# Altium schematic symbol library Schlib1.SchLib: 2 symbols
Pins are listed as number, name and electrical type; pins without a type are passive.

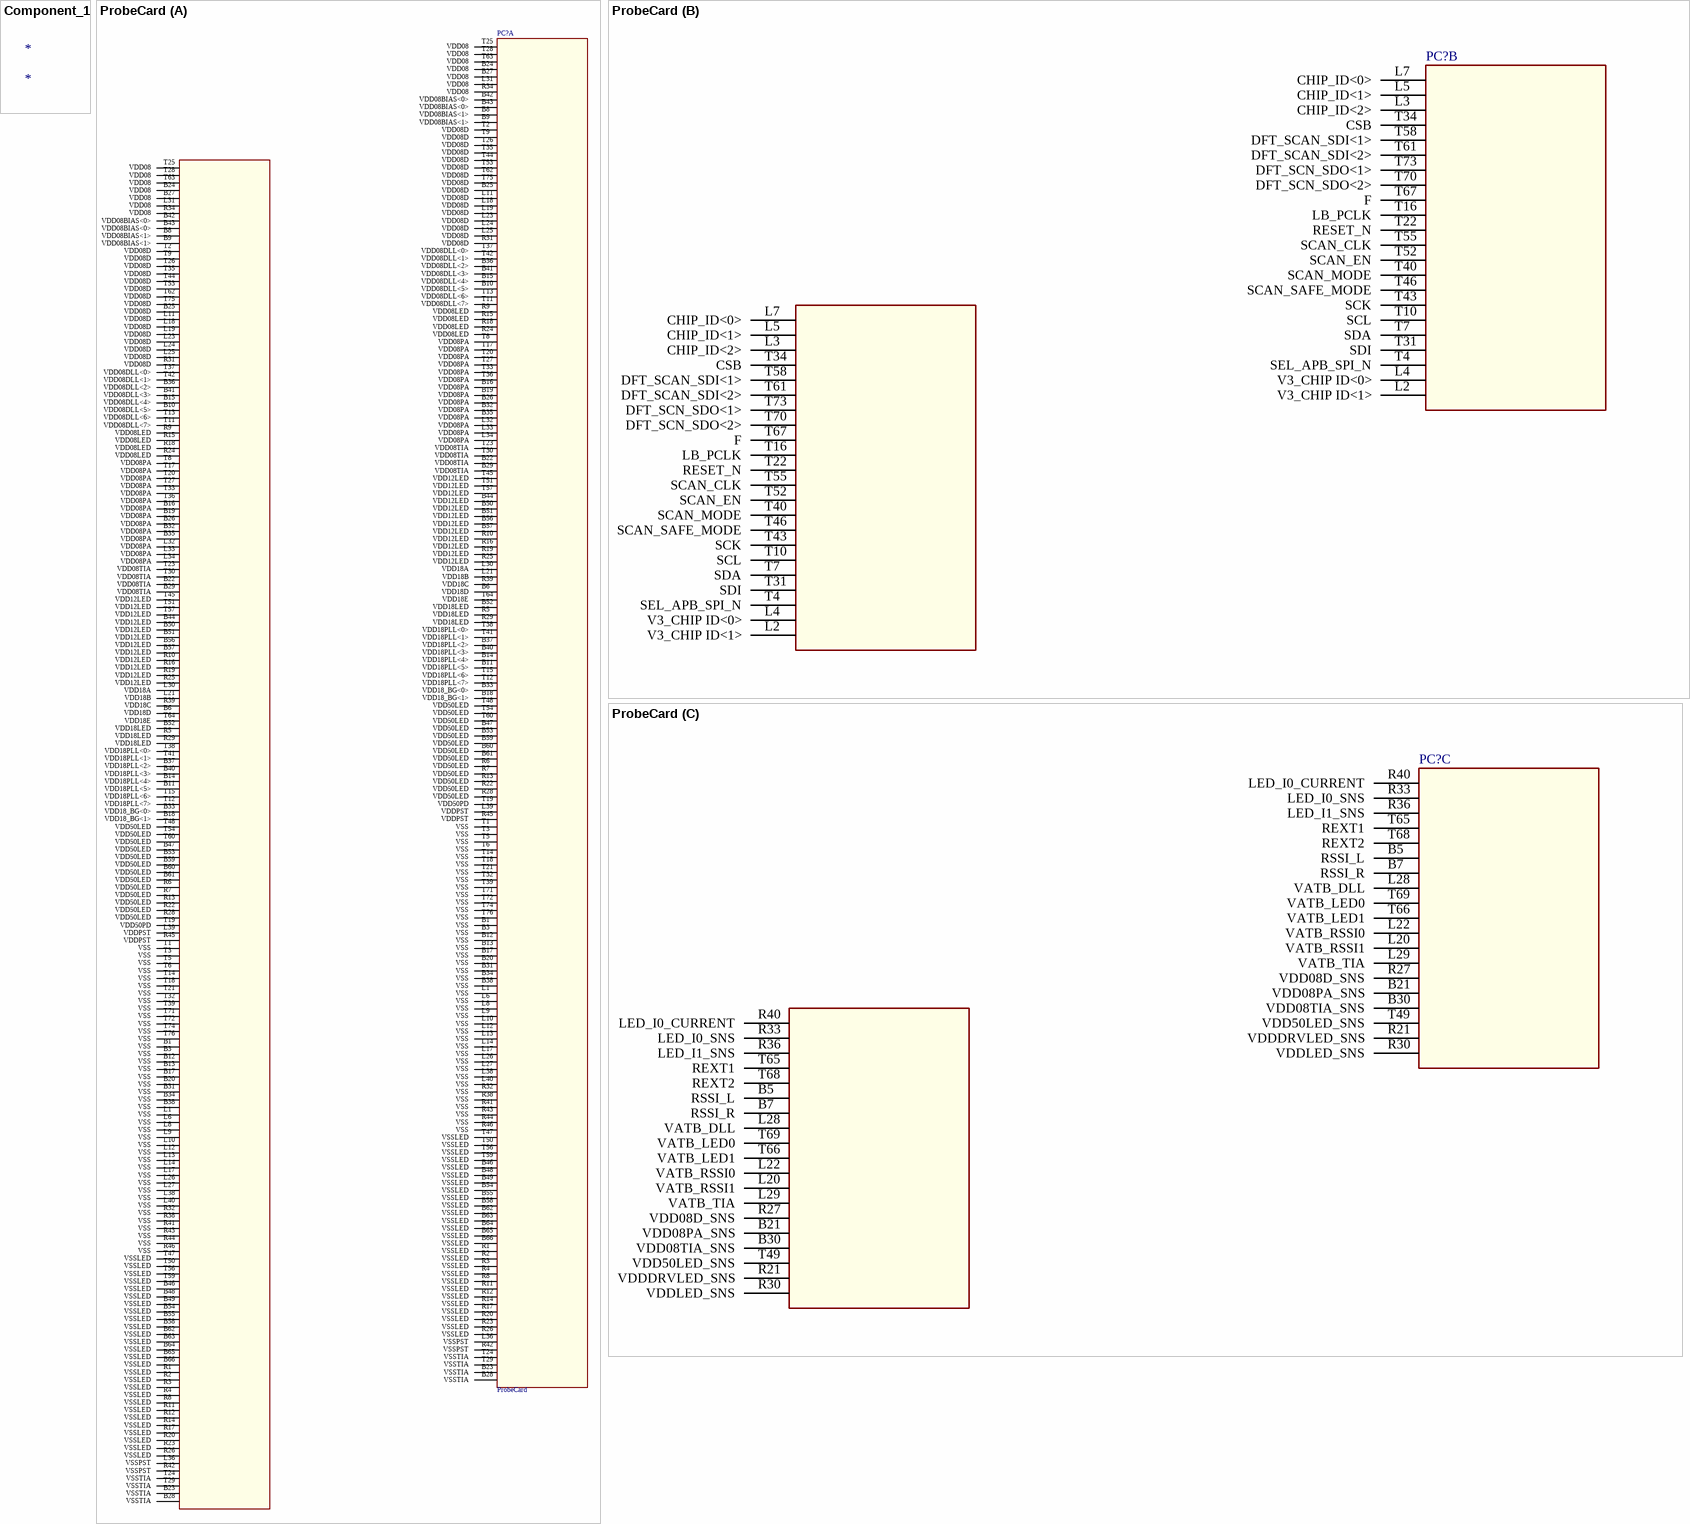
[diagram p0: symbols Component_1 to ProbeCard]

## Component_1
designator *

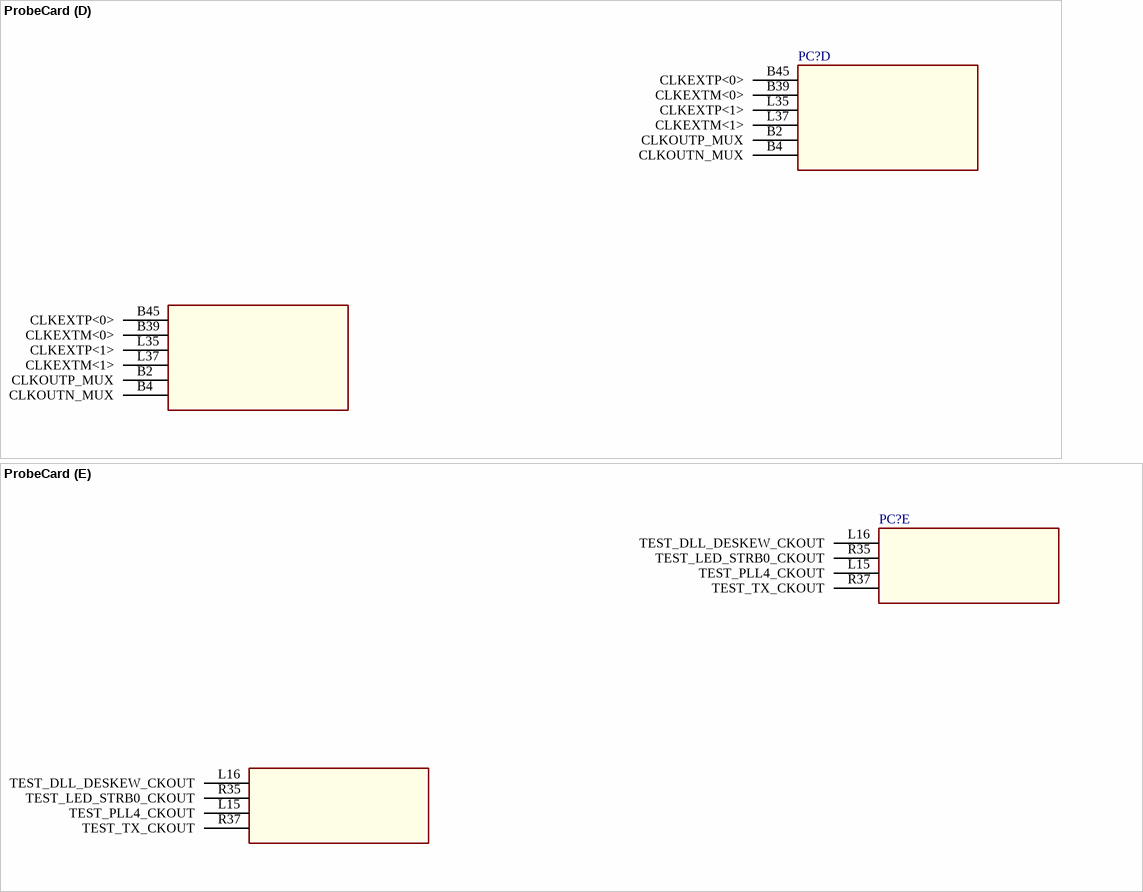
[diagram p1: symbol ProbeCard]

## ProbeCard
designator PC?
Probe card -- one part per net class
footprint ProbeCard
footprint ProbeCard
part A pins: B1 VSS, B1 VSS, B3 VSS, B3 VSS, B6 VDD18D, B6 VDD18D, B8 VDD08BIAS<1>, B8 VDD08BIAS<1>, B9 VDD08BIAS<1>, B9 VDD08BIAS<1>, B10 VDD08DLL<5>, B10 VDD08DLL<5>, B11 VDD18PLL<5>, B11 VDD18PLL<5>, B12 VSS, B12 VSS, B13 VSS, B13 VSS, B14 VDD18PLL<4>, B14 VDD18PLL<4>, B15 VDD08DLL<4>, B15 VDD08DLL<4>, B16 VDD08PA, B16 VDD08PA, B17 VSS, B17 VSS, B18 VDD18_BG<1>, B18 VDD18_BG<1>, B19 VDD08PA, B19 VDD08PA, B20 VSS, B20 VSS, B22 VDD08TIA, B22 VDD08TIA, B23 VSSTIA, B23 VSSTIA, B24 VDD08, B24 VDD08, B25 VDD08D, B25 VDD08D, B26 VDD08PA, B26 VDD08PA, B27 VDD08, B27 VDD08, B28 VSSTIA, B28 VSSTIA, B29 VDD08TIA, B29 VDD08TIA, B31 VSS, B31 VSS, B32 VDD08PA, B32 VDD08PA, B33 VDD18_BG<0>, B33 VDD18_BG<0>, B34 VSS, B34 VSS, B35 VDD08PA, B35 VDD08PA, B36 VDD08DLL<2>, B36 VDD08DLL<2>, B37 VDD18PLL<2>, B37 VDD18PLL<2>, B38 VSS, B38 VSS, B40 VDD18PLL<3>, B40 VDD18PLL<3>, B41 VDD08DLL<3>, B41 VDD08DLL<3>, B42 VDD08BIAS<0>, B42 VDD08BIAS<0>, B43 VDD08BIAS<0>, B43 VDD08BIAS<0>, B44 VDD12LED, B44 VDD12LED, B46 VSSLED, B46 VSSLED, B47 VDD50LED, B47 VDD50LED, B48 VSSLED, B48 VSSLED, B49 VSSLED, B49 VSSLED, B50 VDD12LED, B50 VDD12LED, B51 VDD12LED, B51 VDD12LED, B52 VDD18LED, B52 VDD18LED, B53 VDD50LED, B53 VDD50LED, B54 VSSLED, B54 VSSLED, B55 VSSLED, B55 VSSLED, B56 VDD12LED, B56 VDD12LED, B57 VDD12LED, B57 VDD12LED, B58 VSSLED, B58 VSSLED, B59 VDD50LED, B59 VDD50LED, B60 VDD50LED, B60 VDD50LED, B61 VDD50LED, B61 VDD50LED, B62 VSSLED, B62 VSSLED, B63 VSSLED, B63 VSSLED, B64 VSSLED, B64 VSSLED, B65 VSSLED, B65 VSSLED, B66 VSSLED, B66 VSSLED, L1 VSS, L1 VSS, L6 VSS, L6 VSS, L8 VSS, L8 VSS, L9 VSS, L9 VSS, L10 VSS, L10 VSS, L11 VDD08D, L11 VDD08D, L12 VSS, L12 VSS, L13 VSS, L13 VSS, L14 VSS, L14 VSS, L17 VSS, L17 VSS, L18 VDD08D, L18 VDD08D, L19 VDD08D, L19 VDD08D, L21 VDD18B, L21 VDD18B, L23 VDD08D, L23 VDD08D, L24 VDD08D, L24 VDD08D, L25 VDD08D, L25 VDD08D, L26 VSS, L26 VSS, L27 VSS, L27 VSS, L30 VDD18A, L30 VDD18A, L31 VDD08, L31 VDD08, L32 VDD08PA, L32 VDD08PA, L33 VDD08PA, L33 VDD08PA, L34 VDD08PA, L34 VDD08PA, L36 VSSPST, L36 VSSPST, L38 VSS, L38 VSS, L39 VDDPST, L39 VDDPST, L40 VSS, L40 VSS, R1 VSSLED, R1 VSSLED, R2 VSSLED, R2 VSSLED, R3 VSSLED, R3 VSSLED, R4 VSSLED, R4 VSSLED, R5 VDD18LED, R5 VDD18LED, R6 VDD50LED, R6 VDD50LED, R7 VDD50LED, R7 VDD50LED, R8 VSSLED, R8 VSSLED, R9 VDD08LED, R9 VDD08LED, R10 VDD12LED, R10 VDD12LED, R11 VSSLED, R11 VSSLED, R12 VSSLED, R12 VSSLED, R13 VDD50LED, R13 VDD50LED, R14 VSSLED, R14 VSSLED, R15 VDD08LED, R15 VDD08LED, R16 VDD12LED, R16 VDD12LED, R17 VSSLED, R17 VSSLED, R18 VDD08LED, R18 VDD08LED, R19 VDD12LED, R19 VDD12LED, R20 VSSLED, R20 VSSLED, R22 VDD50LED, R22 VDD50LED, R23 VSSLED, R23 VSSLED, R24 VDD08LED, R24 VDD08LED, R25 VDD12LED, R25 VDD12LED, R26 VSSLED, R26 VSSLED, R28 VDD50LED, R28 VDD50LED, R29 VDD18LED, R29 VDD18LED, R31 VDD08D, R31 VDD08D, R32 VSS, R32 VSS, R34 VDD08, R34 VDD08, R38 VSS, R38 VSS, R39 VDD18C, R39 VDD18C, R41 VSS, R41 VSS, R42 VSSPST, R42 VSSPST, R43 VSS, R43 VSS, R44 VSS, R44 VSS, R45 VDDPST, R45 VDDPST, R46 VSS, R46 VSS, T1 VSS, T1 VSS, T2 VDD08D, T2 VDD08D, T3 VSS, T3 VSS, T5 VSS, T5 VSS, T6 VSS, T6 VSS, T8 VDD08PA, T8 VDD08PA, T9 VDD08D, T9 VDD08D, T11 VDD08DLL<7>, T11 VDD08DLL<7>, T12 VDD18PLL<7>, T12 VDD18PLL<7>, T13 VDD08DLL<6>, T13 VDD08DLL<6>, T14 VSS, T14 VSS, T15 VDD18PLL<6>, T15 VDD18PLL<6>, T17 VDD08PA, T17 VDD08PA, T18 VSS, T18 VSS, T19 VDD50PD, T19 VDD50PD, T20 VDD08PA, T20 VDD08PA, T21 VSS, T21 VSS, T23 VDD08TIA, T23 VDD08TIA, T24 VSSTIA, T24 VSSTIA, T25 VDD08, T25 VDD08, T26 VDD08D, T26 VDD08D, T27 VDD08PA, T27 VDD08PA, T28 VDD08, T28 VDD08, T29 VSSTIA, T29 VSSTIA, T30 VDD08TIA, T30 VDD08TIA, T32 VSS, T32 VSS, T33 VDD08PA, T33 VDD08PA, T35 VDD08D, T35 VDD08D, T36 VDD08PA, T36 VDD08PA, T37 VDD08DLL<0>, T37 VDD08DLL<0>, T38 VDD18PLL<0>, T38 VDD18PLL<0>, T39 VSS, T39 VSS, T41 VDD18PLL<1>, T41 VDD18PLL<1>, T42 VDD08DLL<1>, T42 VDD08DLL<1>, T44 VDD08D, T44 VDD08D, T45 VDD12LED, T45 VDD12LED, T47 VSSLED, T47 VSSLED, T48 VDD50LED, T48 VDD50LED, T50 VSSLED, T50 VSSLED, T51 VDD12LED, T51 VDD12LED, T53 VDD08D, T53 VDD08D, T54 VDD50LED, T54 VDD50LED, T56 VSSLED, T56 VSSLED, T57 VDD12LED, T57 VDD12LED, T59 VSSLED, T59 VSSLED, T60 VDD50LED, T60 VDD50LED, T62 VDD08D, T62 VDD08D, T63 VDD08, T63 VDD08, T64 VDD18E, T64 VDD18E, T71 VSS, T71 VSS, T72 VSS, T72 VSS, T74 VSS, T74 VSS, T75 VDD08D, T75 VDD08D, T76 VSS, T76 VSS
part B pins: L2 V3_CHIP ID<1>, L2 V3_CHIP ID<1>, L3 CHIP_ID<2>, L3 CHIP_ID<2>, L4 V3_CHIP ID<0>, L4 V3_CHIP ID<0>, L5 CHIP_ID<1>, L5 CHIP_ID<1>, L7 CHIP_ID<0>, L7 CHIP_ID<0>, T4 SEL_APB_SPI_N, T4 SEL_APB_SPI_N, T7 SDA, T7 SDA, T10 SCL, T10 SCL, T16 LB_PCLK, T16 LB_PCLK, T22 RESET_N, T22 RESET_N, T31 SDI, T31 SDI, T34 CSB, T34 CSB, T40 SCAN_MODE, T40 SCAN_MODE, T43 SCK, T43 SCK, T46 SCAN_SAFE_MODE, T46 SCAN_SAFE_MODE, T52 SCAN_EN, T52 SCAN_EN, T55 SCAN_CLK, T55 SCAN_CLK, T58 DFT_SCAN_SDI<1>, T58 DFT_SCAN_SDI<1>, T61 DFT_SCAN_SDI<2>, T61 DFT_SCAN_SDI<2>, T67 F, T67 F, T70 DFT_SCN_SDO<2>, T70 DFT_SCN_SDO<2>, T73 DFT_SCN_SDO<1>, T73 DFT_SCN_SDO<1>
part C pins: B5 RSSI_L, B5 RSSI_L, B7 RSSI_R, B7 RSSI_R, B21 VDD08PA_SNS, B21 VDD08PA_SNS, B30 VDD08TIA_SNS, B30 VDD08TIA_SNS, L20 VATB_RSSI1, L20 VATB_RSSI1, L22 VATB_RSSI0, L22 VATB_RSSI0, L28 VATB_DLL, L28 VATB_DLL, L29 VATB_TIA, L29 VATB_TIA, R21 VDDDRVLED_SNS, R21 VDDDRVLED_SNS, R27 VDD08D_SNS, R27 VDD08D_SNS, R30 VDDLED_SNS, R30 VDDLED_SNS, R33 LED_I0_SNS, R33 LED_I0_SNS, R36 LED_I1_SNS, R36 LED_I1_SNS, R40 LED_I0_CURRENT, R40 LED_I0_CURRENT, T49 VDD50LED_SNS, T49 VDD50LED_SNS, T65 REXT1, T65 REXT1, T66 VATB_LED1, T66 VATB_LED1, T68 REXT2, T68 REXT2, T69 VATB_LED0, T69 VATB_LED0
part D pins: B2 CLKOUTP_MUX, B2 CLKOUTP_MUX, B4 CLKOUTN_MUX, B4 CLKOUTN_MUX, B39 CLKEXTM<0>, B39 CLKEXTM<0>, B45 CLKEXTP<0>, B45 CLKEXTP<0>, L35 CLKEXTP<1>, L35 CLKEXTP<1>, L37 CLKEXTM<1>, L37 CLKEXTM<1>
part E pins: L15 TEST_PLL4_CKOUT, L15 TEST_PLL4_CKOUT, L16 TEST_DLL_DESKEW_CKOUT, L16 TEST_DLL_DESKEW_CKOUT, R35 TEST_LED_STRB0_CKOUT, R35 TEST_LED_STRB0_CKOUT, R37 TEST_TX_CKOUT, R37 TEST_TX_CKOUT